# Altium footprint library PIC32MX795F512H-80VPT.PcbLib: 3 footprints
Each footprint in its own frame and in the unit in brackets; x right, y up, seen from the top. Pads: shape width x height; smd on the part's side, far side on the other; paste and mask are expansions set on the pad; w line width, h text height; cw(c..) or ccw(c..) is an arc to the next point about the centre after c.
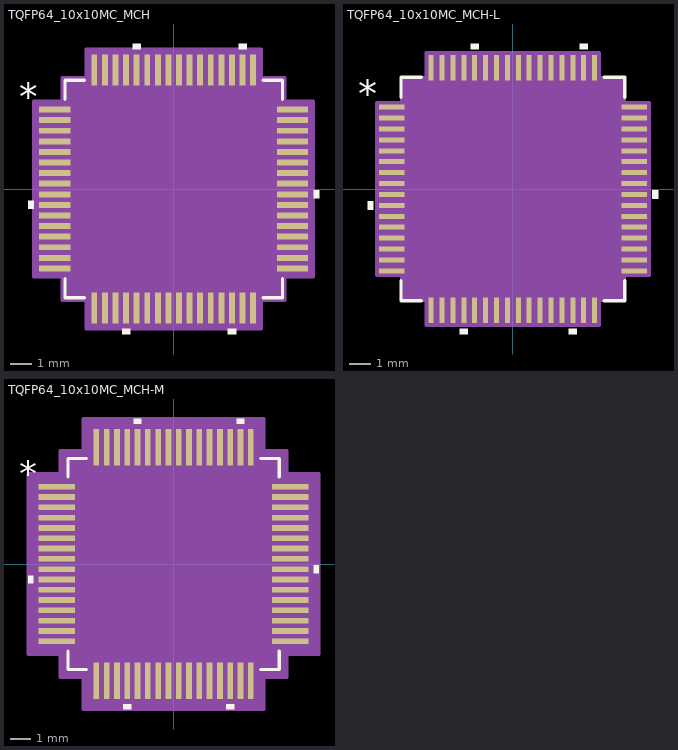
[diagram p0: the footprints below, top view; thin cyan lines are the x and y axes]

## TQFP64_10x10MC_MCH [mil]
pads (64):
  rect 58x11 smd paste+0 mask+0: 1(-221,147.64) 2(-221,127.95) 3(-221,108.27) 4(-221,88.58) 5(-221,68.9) 6(-221,49.21) 7(-221,29.53) 8(-221,9.84) 9(-221,-9.84) 10(-221,-29.53) 11(-221,-49.21) 12(-221,-68.9) 13(-221,-88.58) 14(-221,-108.27) 15(-221,-127.95) 16(-221,-147.64) 33(221,-147.64) 34(221,-127.95) 35(221,-108.27) 36(221,-88.58) 37(221,-68.9) 38(221,-49.21) 39(221,-29.53) 40(221,-9.84) 41(221,9.84) 42(221,29.53) 43(221,49.21) 44(221,68.9) 45(221,88.58) 46(221,108.27) 47(221,127.95) 48(221,147.64)
  rect 11x58 smd paste+0 mask+0: 17(-147.64,-221) 18(-127.95,-221) 19(-108.27,-221) 20(-88.58,-221) 21(-68.9,-221) 22(-49.21,-221) 23(-29.53,-221) 24(-9.84,-221) 25(9.84,-221) 26(29.53,-221) 27(49.21,-221) 28(68.9,-221) 29(88.58,-221) 30(108.27,-221) 31(127.95,-221) 32(147.64,-221) 49(147.64,221) 50(127.95,221) 51(108.27,221) 52(88.58,221) 53(68.9,221) 54(49.21,221) 55(29.53,221) 56(9.84,221) 57(-9.84,221) 58(-29.53,221) 59(-49.21,221) 60(-68.9,221) 61(-88.58,221) 62(-108.27,221) 63(-127.95,221) 64(-147.64,221)
Top Overlay:
  region: -260,-22.03 -270,-22.03 -270,-37.03 -260,-37.03
  region: -81.08,-260 -96.08,-260 -96.08,-270 -81.08,-270
  region: 115.77,-260 100.77,-260 100.77,-270 115.77,-270
  region: 260,-2.34 270,-2.34 270,-17.34 260,-17.34
  region: 135.45,260 120.45,260 120.45,270 135.45,270
  region: -61.4,260 -76.4,260 -76.4,270 -61.4,270
  lines w6: -202,-166.24 -202,-202 -166.24,-202 ; -202,166.24 -202,202 -166.24,202 ; 166.24,-202 202,-202 202,-166.24 ; 166.24,202 202,202 202,166.24
  text "*" at -287.5,147.48 h50
  text ".Designator" at -137.5,-25 h50
Mechanical 13:
  drawing of 265 lines, arcs and shapes, not listed
  text ".Designator" at -137.5,-25 h50
  text "*" at -194.5,132.48 h50
Mechanical 15:
  region: -163.14,-207 -207,-207 -207,-163.14 -260,-163.14 -260,163.14 -207,163.14 -207,207 -163.14,207 -163.14,260 163.14,260 163.14,207 207,207 207,163.14 260,163.14 260,-163.14 207,-163.14 207,-207 163.14,-207 163.14,-260 -163.14,-260
  lines w6: -260,-163.14 -207,-163.14 -207,-207 -163.14,-207 -163.14,-260 163.14,-260 163.14,-207 207,-207 207,-163.14 260,-163.14 260,163.14 207,163.14 207,207 163.14,207 163.14,260 -163.14,260 -163.14,207 -207,207 -207,163.14 -260,163.14 -260,-163.14
3D body "TQFP64_10x10MC_MCH.step": height 47.09, standoff 0, extent -235.98,-235.98 235.98,235.98

## TQFP64_10x10MC_MCH-L [mil]
pads (64):
  rect 46x9 smd paste+0 mask+0: 1(-219,147.64) 2(-219,127.95) 3(-219,108.27) 4(-219,88.58) 5(-219,68.9) 6(-219,49.21) 7(-219,29.53) 8(-219,9.84) 9(-219,-9.84) 10(-219,-29.53) 11(-219,-49.21) 12(-219,-68.9) 13(-219,-88.58) 14(-219,-108.27) 15(-219,-127.95) 16(-219,-147.64) 33(219,-147.64) 34(219,-127.95) 35(219,-108.27) 36(219,-88.58) 37(219,-68.9) 38(219,-49.21) 39(219,-29.53) 40(219,-9.84) 41(219,9.84) 42(219,29.53) 43(219,49.21) 44(219,68.9) 45(219,88.58) 46(219,108.27) 47(219,127.95) 48(219,147.64)
  rect 9x46 smd paste+0 mask+0: 17(-147.64,-219) 18(-127.95,-219) 19(-108.27,-219) 20(-88.58,-219) 21(-68.9,-219) 22(-49.21,-219) 23(-29.53,-219) 24(-9.84,-219) 25(9.84,-219) 26(29.53,-219) 27(49.21,-219) 28(68.9,-219) 29(88.58,-219) 30(108.27,-219) 31(127.95,-219) 32(147.64,-219) 49(147.64,219) 50(127.95,219) 51(108.27,219) 52(88.58,219) 53(68.9,219) 54(49.21,219) 55(29.53,219) 56(9.84,219) 57(-9.84,219) 58(-29.53,219) 59(-49.21,219) 60(-68.9,219) 61(-88.58,219) 62(-108.27,219) 63(-127.95,219) 64(-147.64,219)
Top Overlay:
  region: -252,-22.03 -262,-22.03 -262,-37.03 -252,-37.03
  region: -81.08,-252 -96.08,-252 -96.08,-262 -81.08,-262
  region: 115.77,-252 100.77,-252 100.77,-262 115.77,-262
  region: 252,-2.34 262,-2.34 262,-17.34 252,-17.34
  region: 135.45,252 120.45,252 120.45,262 135.45,262
  region: -61.4,252 -76.4,252 -76.4,262 -61.4,262
  lines w6: -202,-165.24 -202,-202 -165.24,-202 ; -202,165.24 -202,202 -165.24,202 ; 165.24,-202 202,-202 202,-165.24 ; 165.24,202 202,202 202,165.24
  text "*" at -279.5,147.48 h50
  text ".Designator" at -137.5,-25 h50
Mechanical 13:
  drawing of 261 lines, arcs and shapes, not listed
  text ".Designator" at -137.5,-25 h50
  text "*" at -194.5,132.48 h50
Mechanical 15:
  region: -156.14,-201 -201,-201 -201,-156.14 -246,-156.14 -246,156.14 -201,156.14 -201,201 -156.14,201 -156.14,246 156.14,246 156.14,201 201,201 201,156.14 246,156.14 246,-156.14 201,-156.14 201,-201 156.14,-201 156.14,-246 -156.14,-246
  lines w6: -246,-156.14 -201,-156.14 -201,-201 -156.14,-201 -156.14,-246 156.14,-246 156.14,-201 201,-201 201,-156.14 246,-156.14 246,156.14 201,156.14 201,201 156.14,201 156.14,246 -156.14,246 -156.14,201 -201,201 -201,156.14 -246,156.14 -246,-156.14
3D body "TQFP64_10x10MC_MCH.step": height 47.09, standoff 0, extent -235.98,-235.98 235.98,235.98

## TQFP64_10x10MC_MCH-M [mil]
pads (64):
  rect 70x11 smd paste+0 mask+0: 1(-223,147.64) 2(-223,127.95) 3(-223,108.27) 4(-223,88.58) 5(-223,68.9) 6(-223,49.21) 7(-223,29.53) 8(-223,9.84) 9(-223,-9.84) 10(-223,-29.53) 11(-223,-49.21) 12(-223,-68.9) 13(-223,-88.58) 14(-223,-108.27) 15(-223,-127.95) 16(-223,-147.64) 33(223,-147.64) 34(223,-127.95) 35(223,-108.27) 36(223,-88.58) 37(223,-68.9) 38(223,-49.21) 39(223,-29.53) 40(223,-9.84) 41(223,9.84) 42(223,29.53) 43(223,49.21) 44(223,68.9) 45(223,88.58) 46(223,108.27) 47(223,127.95) 48(223,147.64)
  rect 11x70 smd paste+0 mask+0: 17(-147.64,-223) 18(-127.95,-223) 19(-108.27,-223) 20(-88.58,-223) 21(-68.9,-223) 22(-49.21,-223) 23(-29.53,-223) 24(-9.84,-223) 25(9.84,-223) 26(29.53,-223) 27(49.21,-223) 28(68.9,-223) 29(88.58,-223) 30(108.27,-223) 31(127.95,-223) 32(147.64,-223) 49(147.64,223) 50(127.95,223) 51(108.27,223) 52(88.58,223) 53(68.9,223) 54(49.21,223) 55(29.53,223) 56(9.84,223) 57(-9.84,223) 58(-29.53,223) 59(-49.21,223) 60(-68.9,223) 61(-88.58,223) 62(-108.27,223) 63(-127.95,223) 64(-147.64,223)
Top Overlay:
  region: -268,-22.03 -278,-22.03 -278,-37.03 -268,-37.03
  region: -81.08,-268 -96.08,-268 -96.08,-278 -81.08,-278
  region: 115.77,-268 100.77,-268 100.77,-278 115.77,-278
  region: 268,-2.34 278,-2.34 278,-17.34 268,-17.34
  region: 135.45,268 120.45,268 120.45,278 135.45,278
  region: -61.4,268 -76.4,268 -76.4,278 -61.4,278
  lines w6: -202,-166.24 -202,-202 -166.24,-202 ; -202,166.24 -202,202 -166.24,202 ; 166.24,-202 202,-202 202,-166.24 ; 166.24,202 202,202 202,166.24
  text "*" at -295.5,147.48 h50
  text ".Designator" at -137.5,-25 h50
Mechanical 13:
  drawing of 261 lines, arcs and shapes, not listed
  text ".Designator" at -137.5,-25 h50
  text "*" at -194.5,132.48 h50
Mechanical 15:
  region: -173.14,-217 -217,-217 -217,-173.14 -278,-173.14 -278,173.14 -217,173.14 -217,217 -173.14,217 -173.14,278 173.14,278 173.14,217 217,217 217,173.14 278,173.14 278,-173.14 217,-173.14 217,-217 173.14,-217 173.14,-278 -173.14,-278
  lines w6: -278,-173.14 -217,-173.14 -217,-217 -173.14,-217 -173.14,-278 173.14,-278 173.14,-217 217,-217 217,-173.14 278,-173.14 278,173.14 217,173.14 217,217 173.14,217 173.14,278 -173.14,278 -173.14,217 -217,217 -217,173.14 -278,173.14 -278,-173.14
3D body "TQFP64_10x10MC_MCH.step": height 47.09, standoff 0, extent -235.98,-235.98 235.98,235.98